# Altium integrated library TI_Logic_Little_Logic.IntLib: 1164 symbols (part 13 of 35)
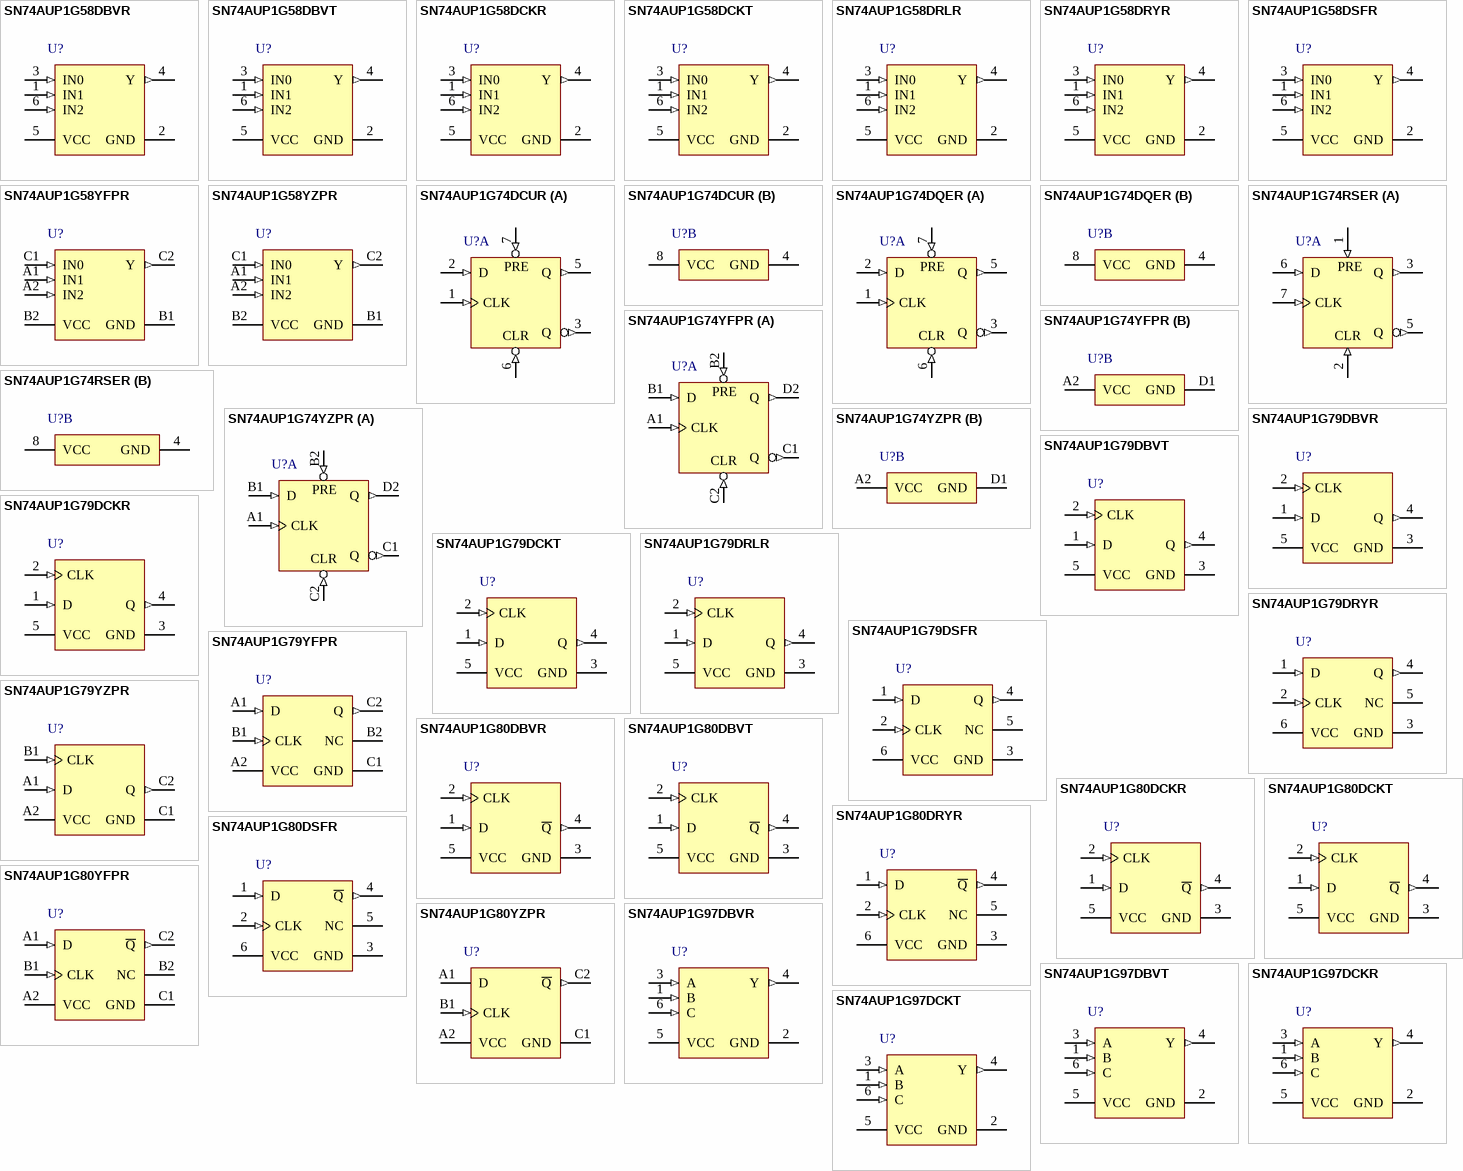
[diagram p72: symbols SN74AUP1G58DBVR to SN74AUP1G97DCKT]

## SN74AUP1G79DBVR
designator U?
Low-Power Single Positive-Edge-Triggered D-Type Flip-Flop, DBV0005A, LARGE T&R; Generic Part Number: SN74AUP1G79; Manufacturer: Texas Instruments; PartNumber: SN74AUP1G79DBVR; VCC(Min)(V): 0.8; VCC(Max)(V): 3.6; Output Type: CMOS; ICC @ Nom Voltage(Max)(mA): 0.0009; Bits(#): 1; F @ Nom Voltage(Max)(Mhz): 100; Rating: Catalog; Technology Family: AUP; Voltage(Nom)(V): 0.8,1.2,1.5,1.8,2.5,3.3; Schmitt Trigger: No; Output Drive (IOL/IOH)(Max)(mA): 20/-20; tpd @ Nom Voltage(Max)(ns): 27.2,17.3,11.8,9.6,7,5.8; Logic: True; DatasheetVersion: SCES592H; PackageReference: DBV0005A; Supplier 1: Mouser; Supplier Part Number 1: 595-SN74AUP1G79DBVR; Supplier 2: Digi-Key; Supplier Part Number 2: 296-17659-2-ND; Supplier 3: Digi-Key; Supplier Part Number 3: 296-17659-1-ND; Supplier 4: Digi-Key; Supplier Part Number 4: 296-17659-6-ND; Input Type: CMOS; Operating Temperature Range(C): -40 to 85; 3-State Output: No; Sub-Family: D-Type Flip-Flop; ComponentLink1Description: Manufacturer URL; ComponentLink1URL: http://www.ti.com/; ComponentLink2Description: Datasheet; ComponentLink2URL: http://www.ti.com/lit/ds/symlink/sn74aup1g79.pdf
footprint DBV0005A_N (SOT23, 5-Leads, Body 3.05x1.75mm, Pitch 0.95mm, IPC Medium Density)
footprint DBV0005A_M (SOT23, 5-Leads, Body 3.05x1.75mm, Pitch 0.95mm, IPC Low Density)
footprint DBV0005A_L (SOT23, 5-Leads, Body 3.05x1.75mm, Pitch 0.95mm, IPC High Density)
pins: 1 D (in) "Data Input", 2 CLK (in) "Clock Input", 3 GND (power) "Ground", 4 Q (out) "Q Output", 5 VCC (power) "Power"

## SN74AUP1G79DBVT
designator U?
Low-Power Single Positive-Edge-Triggered D-Type Flip-Flop, DBV0005A, SMALL T&R; Generic Part Number: SN74AUP1G79; Manufacturer: Texas Instruments; PartNumber: SN74AUP1G79DBVT; VCC(Min)(V): 0.8; VCC(Max)(V): 3.6; Output Type: CMOS; ICC @ Nom Voltage(Max)(mA): 0.0009; Bits(#): 1; F @ Nom Voltage(Max)(Mhz): 100; Rating: Catalog; Technology Family: AUP; Voltage(Nom)(V): 0.8,1.2,1.5,1.8,2.5,3.3; Schmitt Trigger: No; Output Drive (IOL/IOH)(Max)(mA): 20/-20; tpd @ Nom Voltage(Max)(ns): 27.2,17.3,11.8,9.6,7,5.8; Logic: True; DatasheetVersion: SCES592H; PackageReference: DBV0005A; Supplier 1: Mouser; Supplier Part Number 1: 595-SN74AUP1G79DBVT; Supplier 2: Digi-Key; Supplier Part Number 2: 296-32263-2-ND; Supplier 3: Digi-Key; Supplier Part Number 3: 296-32263-1-ND; Supplier 4: Digi-Key; Supplier Part Number 4: 296-32263-6-ND; Input Type: CMOS; Operating Temperature Range(C): -40 to 85; 3-State Output: No; Sub-Family: D-Type Flip-Flop; ComponentLink1Description: Manufacturer URL; ComponentLink1URL: http://www.ti.com/; ComponentLink2Description: Datasheet; ComponentLink2URL: http://www.ti.com/lit/ds/symlink/sn74aup1g79.pdf
footprint DBV0005A_N (SOT23, 5-Leads, Body 3.05x1.75mm, Pitch 0.95mm, IPC Medium Density)
footprint DBV0005A_M (SOT23, 5-Leads, Body 3.05x1.75mm, Pitch 0.95mm, IPC Low Density)
footprint DBV0005A_L (SOT23, 5-Leads, Body 3.05x1.75mm, Pitch 0.95mm, IPC High Density)
pins: 1 D (in) "Data Input", 2 CLK (in) "Clock Input", 3 GND (power) "Ground", 4 Q (out) "Q Output", 5 VCC (power) "Power"

## SN74AUP1G79DCKR
designator U?
Low-Power Single Positive-Edge-Triggered D-Type Flip-Flop, DCK0005A, LARGE T&R; Generic Part Number: SN74AUP1G79; Manufacturer: Texas Instruments; PartNumber: SN74AUP1G79DCKR; VCC(Min)(V): 0.8; VCC(Max)(V): 3.6; Output Type: CMOS; ICC @ Nom Voltage(Max)(mA): 0.0009; Bits(#): 1; F @ Nom Voltage(Max)(Mhz): 100; Rating: Catalog; Technology Family: AUP; Voltage(Nom)(V): 0.8,1.2,1.5,1.8,2.5,3.3; Schmitt Trigger: No; Output Drive (IOL/IOH)(Max)(mA): 20/-20; tpd @ Nom Voltage(Max)(ns): 27.2,17.3,11.8,9.6,7,5.8; Logic: True; DatasheetVersion: SCES592H; PackageReference: DCK0005A; Supplier 1: Mouser; Supplier Part Number 1: 595-SN74AUP1G79DCKR; Supplier 2: Digi-Key; Supplier Part Number 2: 296-17660-2-ND; Supplier 3: Digi-Key; Supplier Part Number 3: 296-17660-1-ND; Supplier 4: Digi-Key; Supplier Part Number 4: 296-17660-6-ND; Input Type: CMOS; Operating Temperature Range(C): -40 to 85; 3-State Output: No; Sub-Family: D-Type Flip-Flop; ComponentLink1Description: Manufacturer URL; ComponentLink1URL: http://www.ti.com/; ComponentLink2Description: Datasheet; ComponentLink2URL: http://www.ti.com/lit/ds/symlink/sn74aup1g79.pdf
footprint DCK0005A_N (SOT23, 5-Leads, Body 2.15x1.4mm, Pitch 0.65mm, IPC Medium Density)
footprint DCK0005A_M (SOT23, 5-Leads, Body 2.15x1.4mm, Pitch 0.65mm, IPC Low Density)
footprint DCK0005A_L (SOT23, 5-Leads, Body 2.15x1.4mm, Pitch 0.65mm, IPC High Density)
pins: 1 D (in) "Data Input", 2 CLK (in) "Clock Input", 3 GND (power) "Ground", 4 Q (out) "Q Output", 5 VCC (power) "Power"

## SN74AUP1G79DCKT
designator U?
Low-Power Single Positive-Edge-Triggered D-Type Flip-Flop, DCK0005A, SMALL T&R; Generic Part Number: SN74AUP1G79; Manufacturer: Texas Instruments; PartNumber: SN74AUP1G79DCKT; VCC(Min)(V): 0.8; VCC(Max)(V): 3.6; Output Type: CMOS; ICC @ Nom Voltage(Max)(mA): 0.0009; Bits(#): 1; F @ Nom Voltage(Max)(Mhz): 100; Rating: Catalog; Technology Family: AUP; Voltage(Nom)(V): 0.8,1.2,1.5,1.8,2.5,3.3; Schmitt Trigger: No; Output Drive (IOL/IOH)(Max)(mA): 20/-20; tpd @ Nom Voltage(Max)(ns): 27.2,17.3,11.8,9.6,7,5.8; Logic: True; DatasheetVersion: SCES592H; PackageReference: DCK0005A; Supplier 1: Mouser; Supplier Part Number 1: 595-SN74AUP1G79DCKT; Supplier 2: Digi-Key; Supplier Part Number 2: 296-32264-2-ND; Supplier 3: Digi-Key; Supplier Part Number 3: 296-32264-1-ND; Supplier 4: Digi-Key; Supplier Part Number 4: 296-32264-6-ND; Input Type: CMOS; Operating Temperature Range(C): -40 to 85; 3-State Output: No; Sub-Family: D-Type Flip-Flop; ComponentLink1Description: Manufacturer URL; ComponentLink1URL: http://www.ti.com/; ComponentLink2Description: Datasheet; ComponentLink2URL: http://www.ti.com/lit/ds/symlink/sn74aup1g79.pdf
footprint DCK0005A_N (SOT23, 5-Leads, Body 2.15x1.4mm, Pitch 0.65mm, IPC Medium Density)
footprint DCK0005A_M (SOT23, 5-Leads, Body 2.15x1.4mm, Pitch 0.65mm, IPC Low Density)
footprint DCK0005A_L (SOT23, 5-Leads, Body 2.15x1.4mm, Pitch 0.65mm, IPC High Density)
pins: 1 D (in) "Data Input", 2 CLK (in) "Clock Input", 3 GND (power) "Ground", 4 Q (out) "Q Output", 5 VCC (power) "Power"

## SN74AUP1G79DRLR
designator U?
Low-Power Single Positive-Edge-Triggered D-Type Flip-Flop, DRL0005A, LARGE T&R; Generic Part Number: SN74AUP1G79; Manufacturer: Texas Instruments; PartNumber: SN74AUP1G79DRLR; VCC(Min)(V): 0.8; VCC(Max)(V): 3.6; Output Type: CMOS; ICC @ Nom Voltage(Max)(mA): 0.0009; Bits(#): 1; F @ Nom Voltage(Max)(Mhz): 100; Rating: Catalog; Technology Family: AUP; Voltage(Nom)(V): 0.8,1.2,1.5,1.8,2.5,3.3; Schmitt Trigger: No; Output Drive (IOL/IOH)(Max)(mA): 20/-20; tpd @ Nom Voltage(Max)(ns): 27.2,17.3,11.8,9.6,7,5.8; Logic: True; DatasheetVersion: SCES592H; PackageReference: DRL0005A; Supplier 1: Mouser; Supplier Part Number 1: 595-SN74AUP1G79DRLR; Supplier 2: Digi-Key; Supplier Part Number 2: 296-19594-2-ND; Supplier 3: Digi-Key; Supplier Part Number 3: 296-19594-1-ND; Supplier 4: Digi-Key; Supplier Part Number 4: 296-19594-6-ND; Input Type: CMOS; Operating Temperature Range(C): -40 to 85; 3-State Output: No; Sub-Family: D-Type Flip-Flop; ComponentLink1Description: Manufacturer URL; ComponentLink1URL: http://www.ti.com/; ComponentLink2Description: Datasheet; ComponentLink2URL: http://www.ti.com/lit/ds/symlink/sn74aup1g79.pdf
footprint DRL0005A_N (SOT23, 5-Leads, Body 1.7x1.3mm, Pitch 0.5mm, IPC Medium Density)
footprint DRL0005A_M (SOT23, 5-Leads, Body 1.7x1.3mm, Pitch 0.5mm, IPC Low Density)
footprint DRL0005A_L (SOT23, 5-Leads, Body 1.7x1.3mm, Pitch 0.5mm, IPC High Density)
pins: 1 D (in) "Data Input", 2 CLK (in) "Clock Input", 3 GND (power) "Ground", 4 Q (out) "Q Output", 5 VCC (power) "Power"

## SN74AUP1G79DRYR
designator U?
Low-Power Single Positive-Edge-Triggered D-Type Flip-Flop, DRY0006A, LARGE T&R; Generic Part Number: SN74AUP1G79; Manufacturer: Texas Instruments; PartNumber: SN74AUP1G79DRYR; VCC(Min)(V): 0.8; VCC(Max)(V): 3.6; Output Type: CMOS; ICC @ Nom Voltage(Max)(mA): 0.0009; Bits(#): 1; F @ Nom Voltage(Max)(Mhz): 100; Rating: Catalog; Technology Family: AUP; Voltage(Nom)(V): 0.8,1.2,1.5,1.8,2.5,3.3; Schmitt Trigger: No; Output Drive (IOL/IOH)(Max)(mA): 20/-20; tpd @ Nom Voltage(Max)(ns): 27.2,17.3,11.8,9.6,7,5.8; Logic: True; DatasheetVersion: SCES592H; PackageReference: DRY0006A; Supplier 1: Mouser; Supplier Part Number 1: 595-SN74AUP1G79DRYR; Supplier 2: Digi-Key; Supplier Part Number 2: 296-27281-2-ND; Supplier 3: Digi-Key; Supplier Part Number 3: 296-27281-1-ND; Supplier 4: Digi-Key; Supplier Part Number 4: 296-27281-6-ND; Input Type: CMOS; Operating Temperature Range(C): -40 to 85; 3-State Output: No; Sub-Family: D-Type Flip-Flop; ComponentLink1Description: Manufacturer URL; ComponentLink1URL: http://www.ti.com/; ComponentLink2Description: Datasheet; ComponentLink2URL: http://www.ti.com/lit/ds/symlink/sn74aup1g79.pdf
footprint DRY0006A_V (SON, 6-Leads, Body 1.45x1mm, Pitch 0.5mm)
pins: 1 D (in) "Data Input", 2 CLK (in) "Clock Input", 3 GND (power) "Ground", 4 Q (out) "Q Output", 5 NC "No Connect", 6 VCC (power) "Power"

## SN74AUP1G79DSFR
designator U?
Low-Power Single Positive-Edge-Triggered D-Type Flip-Flop, DSF0006A, LARGE T&R; Generic Part Number: SN74AUP1G79; Manufacturer: Texas Instruments; PartNumber: SN74AUP1G79DSFR; VCC(Min)(V): 0.8; VCC(Max)(V): 3.6; Output Type: CMOS; ICC @ Nom Voltage(Max)(mA): 0.0009; Bits(#): 1; F @ Nom Voltage(Max)(Mhz): 100; Rating: Catalog; Technology Family: AUP; Voltage(Nom)(V): 0.8,1.2,1.5,1.8,2.5,3.3; Schmitt Trigger: No; Output Drive (IOL/IOH)(Max)(mA): 20/-20; tpd @ Nom Voltage(Max)(ns): 27.2,17.3,11.8,9.6,7,5.8; Logic: True; DatasheetVersion: SCES592H; PackageReference: DSF0006A; Supplier 1: Mouser; Supplier Part Number 1: 595-SN74AUP1G79DSFR; Supplier 2: Digi-Key; Supplier Part Number 2: 296-25617-2-ND; Supplier 3: Digi-Key; Supplier Part Number 3: 296-25617-1-ND; Supplier 4: Digi-Key; Supplier Part Number 4: 296-25617-6-ND; Input Type: CMOS; Operating Temperature Range(C): -40 to 85; 3-State Output: No; Sub-Family: D-Type Flip-Flop; ComponentLink1Description: Manufacturer URL; ComponentLink1URL: http://www.ti.com/; ComponentLink2Description: Datasheet; ComponentLink2URL: http://www.ti.com/lit/ds/symlink/sn74aup1g79.pdf
footprint DSF0006A_V (SON, 6-Leads, Body 1x1mm, Pitch 0.35mm, TI Recommend)
pins: 1 D (in) "Data Input", 2 CLK (in) "Clock Input", 3 GND (power) "Ground", 4 Q (out) "Q Output", 5 NC "No Connect", 6 VCC (power) "Power"

## SN74AUP1G79YFPR
designator U?
Low-Power Single Positive-Edge-Triggered D-Type Flip-Flop, YZP0006AAAA, LARGE T&R; Generic Part Number: SN74AUP1G79; Manufacturer: Texas Instruments; PartNumber: SN74AUP1G79YFPR; VCC(Min)(V): 0.8; VCC(Max)(V): 3.6; Output Type: CMOS; ICC @ Nom Voltage(Max)(mA): 0.0009; Bits(#): 1; F @ Nom Voltage(Max)(Mhz): 100; Rating: Catalog; Technology Family: AUP; Voltage(Nom)(V): 0.8,1.2,1.5,1.8,2.5,3.3; Schmitt Trigger: No; Output Drive (IOL/IOH)(Max)(mA): 20/-20; tpd @ Nom Voltage(Max)(ns): 27.2,17.3,11.8,9.6,7,5.8; Logic: True; DatasheetVersion: SCES592H; PackageReference: YZP0006AAAA; Supplier 1: Mouser; Supplier Part Number 1: 595-SN74AUP1G79YFPR; Supplier 2: Digi-Key; Supplier Part Number 2: SN74AUP1G79YFPR-ND; Input Type: CMOS; Operating Temperature Range(C): -40 to 85; 3-State Output: No; Sub-Family: D-Type Flip-Flop; ComponentLink1Description: Manufacturer URL; ComponentLink1URL: http://www.ti.com/; ComponentLink2Description: Datasheet; ComponentLink2URL: http://www.ti.com/lit/ds/symlink/sn74aup1g79.pdf
footprint YZP0006AAAA (BGA, 6-Balls, Body 1.16x0.76mm, Pitch 0.4mm)
pins: A1 D (in) "Data Input", A2 VCC (power) "Power", B1 CLK (in) "Clock Input", B2 NC "No Connect", C1 GND (power) "Ground", C2 Q (out) "Q Output"

## SN74AUP1G79YZPR
designator U?
Low-Power Single Positive-Edge-Triggered D-Type Flip-Flop, YZP0005ADAD, LARGE T&R; Generic Part Number: SN74AUP1G79; Manufacturer: Texas Instruments; PartNumber: SN74AUP1G79YZPR; VCC(Min)(V): 0.8; VCC(Max)(V): 3.6; Output Type: CMOS; ICC @ Nom Voltage(Max)(mA): 0.0009; Bits(#): 1; F @ Nom Voltage(Max)(Mhz): 100; Rating: Catalog; Technology Family: AUP; Voltage(Nom)(V): 0.8,1.2,1.5,1.8,2.5,3.3; Schmitt Trigger: No; Output Drive (IOL/IOH)(Max)(mA): 20/-20; tpd @ Nom Voltage(Max)(ns): 27.2,17.3,11.8,9.6,7,5.8; Logic: True; DatasheetVersion: SCES592H; PackageReference: YZP0005ADAD; Supplier 1: Mouser; Supplier Part Number 1: 595-SN74AUP1G79YZPR; Supplier 2: Digi-Key; Supplier Part Number 2: 296-21018-2-ND; Supplier 3: Digi-Key; Supplier Part Number 3: 296-21018-1-ND; Supplier 4: Digi-Key; Supplier Part Number 4: 296-21018-6-ND; Input Type: CMOS; Operating Temperature Range(C): -40 to 85; 3-State Output: No; Sub-Family: D-Type Flip-Flop; ComponentLink1Description: Manufacturer URL; ComponentLink1URL: http://www.ti.com/; ComponentLink2Description: Datasheet; ComponentLink2URL: http://www.ti.com/lit/ds/symlink/sn74aup1g79.pdf
footprint YZP0005ADAD (BGA, 5-Balls, Body 1.39x0.89mm, Pitch 0.5mm)
pins: A1 D (in) "Data Input", A2 VCC (power) "Power", B1 CLK (in) "Clock Input", C1 GND (power) "Ground", C2 Q (out) "Q Output"

## SN74AUP1G80DBVR
designator U?
Low-Power Single Postitive-Edge-Triggered D-Type Flip-Flop, DBV0005A, LARGE T&R; Generic Part Number: SN74AUP1G80; Manufacturer: Texas Instruments; PartNumber: SN74AUP1G80DBVR; VCC(Min)(V): 0.8; VCC(Max)(V): 3.6; Output Type: CMOS; ICC @ Nom Voltage(Max)(mA): 0.0009; Bits(#): 1; F @ Nom Voltage(Max)(Mhz): 100; Rating: Catalog; Technology Family: AUP; Voltage(Nom)(V): 0.8,1.2,1.5,1.8,2.5,3.3; Schmitt Trigger: No; Output Drive (IOL/IOH)(Max)(mA): 20/-20; tpd @ Nom Voltage(Max)(ns): 28.4,20.7,14.1,11.2,7.9,6.4; Logic: Inverting; DatasheetVersion: SCES593E; PackageReference: DBV0005A; Supplier 1: Mouser; Supplier Part Number 1: 595-SN74AUP1G80DBVR; Supplier 2: Digi-Key; Supplier Part Number 2: 296-17841-2-ND; Supplier 3: Digi-Key; Supplier Part Number 3: 296-17841-1-ND; Supplier 4: Digi-Key; Supplier Part Number 4: 296-17841-6-ND; Input Type: CMOS; Operating Temperature Range(C): -40 to 85; 3-State Output: No; Sub-Family: D-Type Flip-Flop; ComponentLink1Description: Manufacturer URL; ComponentLink1URL: http://www.ti.com/; ComponentLink2Description: Datasheet; ComponentLink2URL: http://www.ti.com/lit/ds/symlink/sn74aup1g80.pdf
footprint DBV0005A_N (SOT23, 5-Leads, Body 3.05x1.75mm, Pitch 0.95mm, IPC Medium Density)
footprint DBV0005A_M (SOT23, 5-Leads, Body 3.05x1.75mm, Pitch 0.95mm, IPC Low Density)
footprint DBV0005A_L (SOT23, 5-Leads, Body 3.05x1.75mm, Pitch 0.95mm, IPC High Density)
pins: 1 D (in), 2 CLK (in), 3 GND (power), 4 ~{Q} (out), 5 VCC (power)

## SN74AUP1G80DBVT
designator U?
Low-Power Single Postitive-Edge-Triggered D-Type Flip-Flop, DBV0005A, SMALL T&R; Generic Part Number: SN74AUP1G80; Manufacturer: Texas Instruments; PartNumber: SN74AUP1G80DBVT; VCC(Min)(V): 0.8; VCC(Max)(V): 3.6; Output Type: CMOS; ICC @ Nom Voltage(Max)(mA): 0.0009; Bits(#): 1; F @ Nom Voltage(Max)(Mhz): 100; Rating: Catalog; Technology Family: AUP; Voltage(Nom)(V): 0.8,1.2,1.5,1.8,2.5,3.3; Schmitt Trigger: No; Output Drive (IOL/IOH)(Max)(mA): 20/-20; tpd @ Nom Voltage(Max)(ns): 28.4,20.7,14.1,11.2,7.9,6.4; Logic: Inverting; DatasheetVersion: SCES593E; PackageReference: DBV0005A; Supplier 1: Mouser; Supplier Part Number 1: 595-SN74AUP1G80DBVT; Supplier 2: Digi-Key; Supplier Part Number 2: 296-32265-2-ND; Supplier 3: Digi-Key; Supplier Part Number 3: 296-32265-1-ND; Supplier 4: Digi-Key; Supplier Part Number 4: 296-32265-6-ND; Input Type: CMOS; Operating Temperature Range(C): -40 to 85; 3-State Output: No; Sub-Family: D-Type Flip-Flop; ComponentLink1Description: Manufacturer URL; ComponentLink1URL: http://www.ti.com/; ComponentLink2Description: Datasheet; ComponentLink2URL: http://www.ti.com/lit/ds/symlink/sn74aup1g80.pdf
footprint DBV0005A_N (SOT23, 5-Leads, Body 3.05x1.75mm, Pitch 0.95mm, IPC Medium Density)
footprint DBV0005A_M (SOT23, 5-Leads, Body 3.05x1.75mm, Pitch 0.95mm, IPC Low Density)
footprint DBV0005A_L (SOT23, 5-Leads, Body 3.05x1.75mm, Pitch 0.95mm, IPC High Density)
pins: 1 D (in), 2 CLK (in), 3 GND (power), 4 ~{Q} (out), 5 VCC (power)

## SN74AUP1G80DCKR
designator U?
Low-Power Single Postitive-Edge-Triggered D-Type Flip-Flop, DCK0005A, LARGE T&R; Generic Part Number: SN74AUP1G80; Manufacturer: Texas Instruments; PartNumber: SN74AUP1G80DCKR; VCC(Min)(V): 0.8; VCC(Max)(V): 3.6; Output Type: CMOS; ICC @ Nom Voltage(Max)(mA): 0.0009; Bits(#): 1; F @ Nom Voltage(Max)(Mhz): 100; Rating: Catalog; Technology Family: AUP; Voltage(Nom)(V): 0.8,1.2,1.5,1.8,2.5,3.3; Schmitt Trigger: No; Output Drive (IOL/IOH)(Max)(mA): 20/-20; tpd @ Nom Voltage(Max)(ns): 28.4,20.7,14.1,11.2,7.9,6.4; Logic: Inverting; DatasheetVersion: SCES593E; PackageReference: DCK0005A; Supplier 1: Mouser; Supplier Part Number 1: 595-SN74AUP1G80DCKR; Supplier 2: Digi-Key; Supplier Part Number 2: 296-19084-2-ND; Supplier 3: Digi-Key; Supplier Part Number 3: 296-19084-1-ND; Supplier 4: Digi-Key; Supplier Part Number 4: 296-19084-6-ND; Input Type: CMOS; Operating Temperature Range(C): -40 to 85; 3-State Output: No; Sub-Family: D-Type Flip-Flop; ComponentLink1Description: Manufacturer URL; ComponentLink1URL: http://www.ti.com/; ComponentLink2Description: Datasheet; ComponentLink2URL: http://www.ti.com/lit/ds/symlink/sn74aup1g80.pdf
footprint DCK0005A_N (SOT23, 5-Leads, Body 2.15x1.4mm, Pitch 0.65mm, IPC Medium Density)
footprint DCK0005A_M (SOT23, 5-Leads, Body 2.15x1.4mm, Pitch 0.65mm, IPC Low Density)
footprint DCK0005A_L (SOT23, 5-Leads, Body 2.15x1.4mm, Pitch 0.65mm, IPC High Density)
pins: 1 D (in), 2 CLK (in), 3 GND (power), 4 ~{Q} (out), 5 VCC (power)

## SN74AUP1G80DCKT
designator U?
Low-Power Single Postitive-Edge-Triggered D-Type Flip-Flop, DCK0005A, SMALL T&R; Generic Part Number: SN74AUP1G80; Manufacturer: Texas Instruments; PartNumber: SN74AUP1G80DCKT; VCC(Min)(V): 0.8; VCC(Max)(V): 3.6; Output Type: CMOS; ICC @ Nom Voltage(Max)(mA): 0.0009; Bits(#): 1; F @ Nom Voltage(Max)(Mhz): 100; Rating: Catalog; Technology Family: AUP; Voltage(Nom)(V): 0.8,1.2,1.5,1.8,2.5,3.3; Schmitt Trigger: No; Output Drive (IOL/IOH)(Max)(mA): 20/-20; tpd @ Nom Voltage(Max)(ns): 28.4,20.7,14.1,11.2,7.9,6.4; Logic: Inverting; DatasheetVersion: SCES593E; PackageReference: DCK0005A; Supplier 1: Mouser; Supplier Part Number 1: 595-SN74AUP1G80DCKT; Supplier 2: Digi-Key; Supplier Part Number 2: 296-32266-2-ND; Supplier 3: Digi-Key; Supplier Part Number 3: 296-32266-1-ND; Supplier 4: Digi-Key; Supplier Part Number 4: 296-32266-6-ND; Input Type: CMOS; Operating Temperature Range(C): -40 to 85; 3-State Output: No; Sub-Family: D-Type Flip-Flop; ComponentLink1Description: Manufacturer URL; ComponentLink1URL: http://www.ti.com/; ComponentLink2Description: Datasheet; ComponentLink2URL: http://www.ti.com/lit/ds/symlink/sn74aup1g80.pdf
footprint DCK0005A_N (SOT23, 5-Leads, Body 2.15x1.4mm, Pitch 0.65mm, IPC Medium Density)
footprint DCK0005A_M (SOT23, 5-Leads, Body 2.15x1.4mm, Pitch 0.65mm, IPC Low Density)
footprint DCK0005A_L (SOT23, 5-Leads, Body 2.15x1.4mm, Pitch 0.65mm, IPC High Density)
pins: 1 D (in), 2 CLK (in), 3 GND (power), 4 ~{Q} (out), 5 VCC (power)

## SN74AUP1G80DRYR
designator U?
Low-Power Single Postitive-Edge-Triggered D-Type Flip-Flop, DRY0006A, LARGE T&R; Generic Part Number: SN74AUP1G80; Manufacturer: Texas Instruments; PartNumber: SN74AUP1G80DRYR; VCC(Min)(V): 0.8; VCC(Max)(V): 3.6; Output Type: CMOS; ICC @ Nom Voltage(Max)(mA): 0.0009; Bits(#): 1; F @ Nom Voltage(Max)(Mhz): 100; Rating: Catalog; Technology Family: AUP; Voltage(Nom)(V): 0.8,1.2,1.5,1.8,2.5,3.3; Schmitt Trigger: No; Output Drive (IOL/IOH)(Max)(mA): 20/-20; tpd @ Nom Voltage(Max)(ns): 28.4,20.7,14.1,11.2,7.9,6.4; Logic: Inverting; DatasheetVersion: SCES593E; PackageReference: DRY0006A; Supplier 1: Mouser; Supplier Part Number 1: 595-SN74AUP1G80DRYR; Supplier 2: Digi-Key; Supplier Part Number 2: 296-27282-2-ND; Supplier 3: Digi-Key; Supplier Part Number 3: 296-27282-1-ND; Supplier 4: Digi-Key; Supplier Part Number 4: 296-27282-6-ND; Input Type: CMOS; Operating Temperature Range(C): -40 to 85; 3-State Output: No; Sub-Family: D-Type Flip-Flop; ComponentLink1Description: Manufacturer URL; ComponentLink1URL: http://www.ti.com/; ComponentLink2Description: Datasheet; ComponentLink2URL: http://www.ti.com/lit/ds/symlink/sn74aup1g80.pdf
footprint DRY0006A_V (SON, 6-Leads, Body 1.45x1mm, Pitch 0.5mm)
pins: 1 D (in), 2 CLK (in), 3 GND (power), 4 ~{Q} (out), 5 NC, 6 VCC (power)

## SN74AUP1G80DSFR
designator U?
Low-Power Single Postitive-Edge-Triggered D-Type Flip-Flop, DSF0006A, LARGE T&R; Generic Part Number: SN74AUP1G80; Manufacturer: Texas Instruments; PartNumber: SN74AUP1G80DSFR; VCC(Min)(V): 0.8; VCC(Max)(V): 3.6; Output Type: CMOS; ICC @ Nom Voltage(Max)(mA): 0.0009; Bits(#): 1; F @ Nom Voltage(Max)(Mhz): 100; Rating: Catalog; Technology Family: AUP; Voltage(Nom)(V): 0.8,1.2,1.5,1.8,2.5,3.3; Schmitt Trigger: No; Output Drive (IOL/IOH)(Max)(mA): 20/-20; tpd @ Nom Voltage(Max)(ns): 28.4,20.7,14.1,11.2,7.9,6.4; Logic: Inverting; DatasheetVersion: SCES593E; PackageReference: DSF0006A; Supplier 1: Mouser; Supplier Part Number 1: 595-SN74AUP1G80DSFR; Supplier 2: Digi-Key; Supplier Part Number 2: 296-25727-2-ND; Supplier 3: Digi-Key; Supplier Part Number 3: 296-25727-1-ND; Supplier 4: Digi-Key; Supplier Part Number 4: 296-25727-6-ND; Input Type: CMOS; Operating Temperature Range(C): -40 to 85; 3-State Output: No; Sub-Family: D-Type Flip-Flop; ComponentLink1Description: Manufacturer URL; ComponentLink1URL: http://www.ti.com/; ComponentLink2Description: Datasheet; ComponentLink2URL: http://www.ti.com/lit/ds/symlink/sn74aup1g80.pdf
footprint DSF0006A_V (SON, 6-Leads, Body 1x1mm, Pitch 0.35mm, TI Recommend)
pins: 1 D (in), 2 CLK (in), 3 GND (power), 4 ~{Q} (out), 5 NC, 6 VCC (power)

## SN74AUP1G80YFPR
designator U?
Low-Power Single Postitive-Edge-Triggered D-Type Flip-Flop, YZP0006AAAA, LARGE T&R; Generic Part Number: SN74AUP1G80; Manufacturer: Texas Instruments; PartNumber: SN74AUP1G80YFPR; VCC(Min)(V): 0.8; VCC(Max)(V): 3.6; Output Type: CMOS; ICC @ Nom Voltage(Max)(mA): 0.0009; Bits(#): 1; F @ Nom Voltage(Max)(Mhz): 100; Rating: Catalog; Technology Family: AUP; Voltage(Nom)(V): 0.8,1.2,1.5,1.8,2.5,3.3; Schmitt Trigger: No; Output Drive (IOL/IOH)(Max)(mA): 20/-20; tpd @ Nom Voltage(Max)(ns): 28.4,20.7,14.1,11.2,7.9,6.4; Logic: Inverting; DatasheetVersion: SCES593E; PackageReference: YZP0006AAAA; Supplier 1: Mouser; Supplier Part Number 1: 595-SN74AUP1G80YFPR; Supplier 2: Digi-Key; Supplier Part Number 2: SN74AUP1G80YFPR-ND; Input Type: CMOS; Operating Temperature Range(C): -40 to 85; 3-State Output: No; Sub-Family: D-Type Flip-Flop; ComponentLink1Description: Manufacturer URL; ComponentLink1URL: http://www.ti.com/; ComponentLink2Description: Datasheet; ComponentLink2URL: http://www.ti.com/lit/ds/symlink/sn74aup1g80.pdf
footprint YZP0006AAAA (BGA, 6-Balls, Body 1.16x0.76mm, Pitch 0.4mm)
pins: A1 D (in), A2 VCC (power), B1 CLK (in), B2 NC, C1 GND (power), C2 ~{Q} (out)

## SN74AUP1G80YZPR
designator U?
Low-Power Single Postitive-Edge-Triggered D-Type Flip-Flop, YZP0005ADAD, LARGE T&R; Generic Part Number: SN74AUP1G80; Manufacturer: Texas Instruments; PartNumber: SN74AUP1G80YZPR; VCC(Min)(V): 0.8; VCC(Max)(V): 3.6; Output Type: CMOS; ICC @ Nom Voltage(Max)(mA): 0.0009; Bits(#): 1; F @ Nom Voltage(Max)(Mhz): 100; Rating: Catalog; Technology Family: AUP; Voltage(Nom)(V): 0.8,1.2,1.5,1.8,2.5,3.3; Schmitt Trigger: No; Output Drive (IOL/IOH)(Max)(mA): 20/-20; tpd @ Nom Voltage(Max)(ns): 28.4,20.7,14.1,11.2,7.9,6.4; Logic: Inverting; DatasheetVersion: SCES593E; PackageReference: YZP0005ADAD; Supplier 1: Mouser; Supplier Part Number 1: 595-SN74AUP1G80YZPR; Supplier 2: Digi-Key; Supplier Part Number 2: 296-21019-2-ND; Supplier 3: Digi-Key; Supplier Part Number 3: 296-21019-1-ND; Supplier 4: Digi-Key; Supplier Part Number 4: 296-21019-6-ND; Input Type: CMOS; Operating Temperature Range(C): -40 to 85; 3-State Output: No; Sub-Family: D-Type Flip-Flop; ComponentLink1Description: Manufacturer URL; ComponentLink1URL: http://www.ti.com/; ComponentLink2Description: Datasheet; ComponentLink2URL: http://www.ti.com/lit/ds/symlink/sn74aup1g80.pdf
footprint YZP0005ADAD (BGA, 5-Balls, Body 1.39x0.89mm, Pitch 0.5mm)
pins: A1 D, A2 VCC (power), B1 CLK (in), C1 GND (power), C2 ~{Q} (out)

## SN74AUP1G97DBVR
designator U?
Low-Power Configurable Multiple-Function Gate, DBV0006A, LARGE T&R; Generic Part Number: SN74AUP1G97; Manufacturer: Texas Instruments; PartNumber: SN74AUP1G97DBVR; VCC(Min)(V): 0.8; VCC(Max)(V): 3.6; Output Type: CMOS; ICC @ Nom Voltage(Max)(mA): 0.0009; Bits(#): 1; F @ Nom Voltage(Max)(Mhz): 100; Rating: Catalog; Technology Family: AUP; Voltage(Nom)(V): 0.8,1.2,1.5,1.8,2.5,3.3; Schmitt Trigger: No; Output Drive (IOL/IOH)(Max)(mA): 20/-20; tpd @ Nom Voltage(Max)(ns): 36.7,21.4,14.8,11.8,8.8,7.3; Logic: True; Sub-Family: Configurable Logic; DatasheetVersion: SCES505J; PackageReference: DBV0006A; Supplier 1: Mouser; Supplier Part Number 1: 595-SN74AUP1G97DBVR; Supplier 2: Digi-Key; Supplier Part Number 2: 296-19085-2-ND; Supplier 3: Digi-Key; Supplier Part Number 3: 296-19085-1-ND; Supplier 4: Digi-Key; Supplier Part Number 4: 296-19085-6-ND; Input Type: CMOS; Operating Temperature Range(C): -40 to 85; Gate Type: Configurable; 3-State Output: No; ComponentLink1Description: Manufacturer URL; ComponentLink1URL: http://www.ti.com/; ComponentLink2Description: Datasheet; ComponentLink2URL: http://www.ti.com/lit/ds/symlink/sn74aup1g97.pdf
footprint DBV0006A_N (SOT23, 6-Leads, Body 3.05x1.75mm, Pitch 0.95mm, IPC Medium Density)
footprint DBV0006A_M (SOT23, 6-Leads, Body 3.05x1.75mm, Pitch 0.95mm, IPC Low Density)
footprint DBV0006A_L (SOT23, 6-Leads, Body 3.05x1.75mm, Pitch 0.95mm, IPC High Density)
pins: 1 B (in), 2 GND (power), 3 A (in), 4 Y (out), 5 VCC (power), 6 C (in)

## SN74AUP1G97DBVT
designator U?
Low-Power Configurable Multiple-Function Gate, DBV0006A, SMALL T&R; Generic Part Number: SN74AUP1G97; Manufacturer: Texas Instruments; PartNumber: SN74AUP1G97DBVT; VCC(Min)(V): 0.8; VCC(Max)(V): 3.6; Output Type: CMOS; ICC @ Nom Voltage(Max)(mA): 0.0009; Bits(#): 1; F @ Nom Voltage(Max)(Mhz): 100; Rating: Catalog; Technology Family: AUP; Voltage(Nom)(V): 0.8,1.2,1.5,1.8,2.5,3.3; Schmitt Trigger: No; Output Drive (IOL/IOH)(Max)(mA): 20/-20; tpd @ Nom Voltage(Max)(ns): 36.7,21.4,14.8,11.8,8.8,7.3; Logic: True; Sub-Family: Configurable Logic; DatasheetVersion: SCES505J; PackageReference: DBV0006A; Supplier 1: Mouser; Supplier Part Number 1: 595-SN74AUP1G97DBVT; Supplier 2: Digi-Key; Supplier Part Number 2: SN74AUP1G97DBVT-ND; Input Type: CMOS; Operating Temperature Range(C): -40 to 85; Gate Type: Configurable; 3-State Output: No; ComponentLink1Description: Manufacturer URL; ComponentLink1URL: http://www.ti.com/; ComponentLink2Description: Datasheet; ComponentLink2URL: http://www.ti.com/lit/ds/symlink/sn74aup1g97.pdf
footprint DBV0006A_N (SOT23, 6-Leads, Body 3.05x1.75mm, Pitch 0.95mm, IPC Medium Density)
footprint DBV0006A_M (SOT23, 6-Leads, Body 3.05x1.75mm, Pitch 0.95mm, IPC Low Density)
footprint DBV0006A_L (SOT23, 6-Leads, Body 3.05x1.75mm, Pitch 0.95mm, IPC High Density)
pins: 1 B (in), 2 GND (power), 3 A (in), 4 Y (out), 5 VCC (power), 6 C (in)

## SN74AUP1G97DCKR
designator U?
Low-Power Configurable Multiple-Function Gate, DCK0006A, LARGE T&R; Generic Part Number: SN74AUP1G97; Manufacturer: Texas Instruments; PartNumber: SN74AUP1G97DCKR; VCC(Min)(V): 0.8; VCC(Max)(V): 3.6; Output Type: CMOS; ICC @ Nom Voltage(Max)(mA): 0.0009; Bits(#): 1; F @ Nom Voltage(Max)(Mhz): 100; Rating: Catalog; Technology Family: AUP; Voltage(Nom)(V): 0.8,1.2,1.5,1.8,2.5,3.3; Schmitt Trigger: No; Output Drive (IOL/IOH)(Max)(mA): 20/-20; tpd @ Nom Voltage(Max)(ns): 36.7,21.4,14.8,11.8,8.8,7.3; Logic: True; Sub-Family: Configurable Logic; DatasheetVersion: SCES505J; PackageReference: DCK0006A; Supplier 1: Mouser; Supplier Part Number 1: 595-SN74AUP1G97DCKR; Supplier 2: Digi-Key; Supplier Part Number 2: 296-19086-2-ND; Supplier 3: Digi-Key; Supplier Part Number 3: 296-19086-1-ND; Supplier 4: Digi-Key; Supplier Part Number 4: 296-19086-6-ND; Input Type: CMOS; Operating Temperature Range(C): -40 to 85; Gate Type: Configurable; 3-State Output: No; ComponentLink1Description: Manufacturer URL; ComponentLink1URL: http://www.ti.com/; ComponentLink2Description: Datasheet; ComponentLink2URL: http://www.ti.com/lit/ds/symlink/sn74aup1g97.pdf
footprint DCK0006A_N (SOT23, 6-Leads, Body 2.15x1.4mm, Pitch 0.65mm, IPC Medium Density)
footprint DCK0006A_M (SOT23, 6-Leads, Body 2.15x1.4mm, Pitch 0.65mm, IPC Low Density)
footprint DCK0006A_L (SOT23, 6-Leads, Body 2.15x1.4mm, Pitch 0.65mm, IPC High Density)
pins: 1 B (in), 2 GND (power), 3 A (in), 4 Y (out), 5 VCC (power), 6 C (in)

## SN74AUP1G97DCKT
designator U?
Low-Power Configurable Multiple-Function Gate, DCK0006A, SMALL T&R; Generic Part Number: SN74AUP1G97; Manufacturer: Texas Instruments; PartNumber: SN74AUP1G97DCKT; VCC(Min)(V): 0.8; VCC(Max)(V): 3.6; Output Type: CMOS; ICC @ Nom Voltage(Max)(mA): 0.0009; Bits(#): 1; F @ Nom Voltage(Max)(Mhz): 100; Rating: Catalog; Technology Family: AUP; Voltage(Nom)(V): 0.8,1.2,1.5,1.8,2.5,3.3; Schmitt Trigger: No; Output Drive (IOL/IOH)(Max)(mA): 20/-20; tpd @ Nom Voltage(Max)(ns): 36.7,21.4,14.8,11.8,8.8,7.3; Logic: True; Sub-Family: Configurable Logic; DatasheetVersion: SCES505J; PackageReference: DCK0006A; Supplier 1: Mouser; Supplier Part Number 1: 595-SN74AUP1G97DCKT; Supplier 2: Digi-Key; Supplier Part Number 2: 296-32267-2-ND; Supplier 3: Digi-Key; Supplier Part Number 3: 296-32267-1-ND; Supplier 4: Digi-Key; Supplier Part Number 4: 296-32267-6-ND; Input Type: CMOS; Operating Temperature Range(C): -40 to 85; Gate Type: Configurable; 3-State Output: No; ComponentLink1Description: Manufacturer URL; ComponentLink1URL: http://www.ti.com/; ComponentLink2Description: Datasheet; ComponentLink2URL: http://www.ti.com/lit/ds/symlink/sn74aup1g97.pdf
footprint DCK0006A_N (SOT23, 6-Leads, Body 2.15x1.4mm, Pitch 0.65mm, IPC Medium Density)
footprint DCK0006A_M (SOT23, 6-Leads, Body 2.15x1.4mm, Pitch 0.65mm, IPC Low Density)
footprint DCK0006A_L (SOT23, 6-Leads, Body 2.15x1.4mm, Pitch 0.65mm, IPC High Density)
pins: 1 B (in), 2 GND (power), 3 A (in), 4 Y (out), 5 VCC (power), 6 C (in)

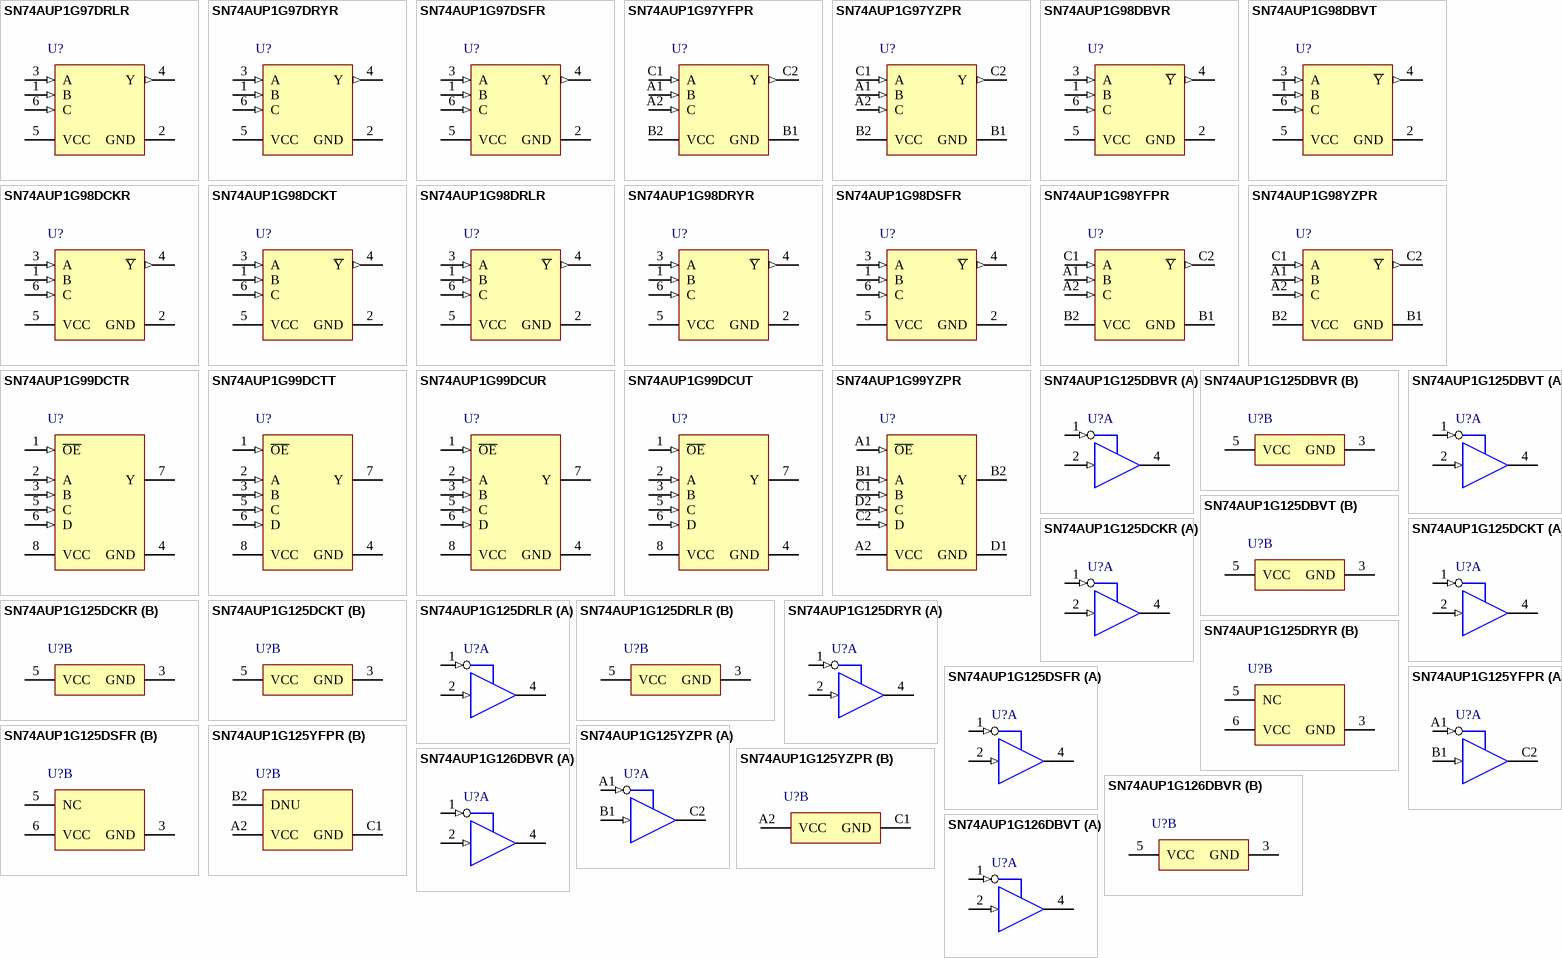
[diagram p21: symbols SN74AUP1G97DRLR to SN74AUP1G126DBVT]

## SN74AUP1G97DRLR
designator U?
Low-Power Configurable Multiple-Function Gate, DRL0006A, LARGE T&R; Generic Part Number: SN74AUP1G97; Manufacturer: Texas Instruments; PartNumber: SN74AUP1G97DRLR; VCC(Min)(V): 0.8; VCC(Max)(V): 3.6; Output Type: CMOS; ICC @ Nom Voltage(Max)(mA): 0.0009; Bits(#): 1; F @ Nom Voltage(Max)(Mhz): 100; Rating: Catalog; Technology Family: AUP; Voltage(Nom)(V): 0.8,1.2,1.5,1.8,2.5,3.3; Schmitt Trigger: No; Output Drive (IOL/IOH)(Max)(mA): 20/-20; tpd @ Nom Voltage(Max)(ns): 36.7,21.4,14.8,11.8,8.8,7.3; Logic: True; Sub-Family: Configurable Logic; DatasheetVersion: SCES505J; PackageReference: DRL0006A; Supplier 1: Mouser; Supplier Part Number 1: 595-SN74AUP1G97DRLR; Supplier 2: Digi-Key; Supplier Part Number 2: 296-18316-2-ND; Supplier 3: Digi-Key; Supplier Part Number 3: 296-18316-1-ND; Supplier 4: Digi-Key; Supplier Part Number 4: 296-18316-6-ND; Input Type: CMOS; Operating Temperature Range(C): -40 to 85; Gate Type: Configurable; 3-State Output: No; ComponentLink1Description: Manufacturer URL; ComponentLink1URL: http://www.ti.com/; ComponentLink2Description: Datasheet; ComponentLink2URL: http://www.ti.com/lit/ds/symlink/sn74aup1g97.pdf
footprint DRL0006A_N (SOT23, 6-Leads, Body 1.7x1.3mm, Pitch 0.5mm, IPC Medium Density)
footprint DRL0006A_M (SOT23, 6-Leads, Body 1.7x1.3mm, Pitch 0.5mm, IPC Low Density)
footprint DRL0006A_L (SOT23, 6-Leads, Body 1.7x1.3mm, Pitch 0.5mm, IPC High Density)
pins: 1 B (in), 2 GND (power), 3 A (in), 4 Y (out), 5 VCC (power), 6 C (in)

## SN74AUP1G97DRYR
designator U?
Low-Power Configurable Multiple-Function Gate, DRY0006A, LARGE T&R; Generic Part Number: SN74AUP1G97; Manufacturer: Texas Instruments; PartNumber: SN74AUP1G97DRYR; VCC(Min)(V): 0.8; VCC(Max)(V): 3.6; Output Type: CMOS; ICC @ Nom Voltage(Max)(mA): 0.0009; Bits(#): 1; F @ Nom Voltage(Max)(Mhz): 100; Rating: Catalog; Technology Family: AUP; Voltage(Nom)(V): 0.8,1.2,1.5,1.8,2.5,3.3; Schmitt Trigger: No; Output Drive (IOL/IOH)(Max)(mA): 20/-20; tpd @ Nom Voltage(Max)(ns): 36.7,21.4,14.8,11.8,8.8,7.3; Logic: True; Sub-Family: Configurable Logic; DatasheetVersion: SCES505J; PackageReference: DRY0006A; Supplier 1: Mouser; Supplier Part Number 1: 595-SN74AUP1G97DRYR; Supplier 2: Digi-Key; Supplier Part Number 2: 296-27344-2-ND; Supplier 3: Digi-Key; Supplier Part Number 3: 296-27344-1-ND; Supplier 4: Digi-Key; Supplier Part Number 4: 296-27344-6-ND; Input Type: CMOS; Operating Temperature Range(C): -40 to 85; Gate Type: Configurable; 3-State Output: No; ComponentLink1Description: Manufacturer URL; ComponentLink1URL: http://www.ti.com/; ComponentLink2Description: Datasheet; ComponentLink2URL: http://www.ti.com/lit/ds/symlink/sn74aup1g97.pdf
footprint DRY0006A_V (SON, 6-Leads, Body 1.45x1mm, Pitch 0.5mm)
pins: 1 B (in), 2 GND (power), 3 A (in), 4 Y (out), 5 VCC (power), 6 C (in)

## SN74AUP1G97DSFR
designator U?
Low-Power Configurable Multiple-Function Gate, DSF0006A, LARGE T&R; Generic Part Number: SN74AUP1G97; Manufacturer: Texas Instruments; PartNumber: SN74AUP1G97DSFR; VCC(Min)(V): 0.8; VCC(Max)(V): 3.6; Output Type: CMOS; ICC @ Nom Voltage(Max)(mA): 0.0009; Bits(#): 1; F @ Nom Voltage(Max)(Mhz): 100; Rating: Catalog; Technology Family: AUP; Voltage(Nom)(V): 0.8,1.2,1.5,1.8,2.5,3.3; Schmitt Trigger: No; Output Drive (IOL/IOH)(Max)(mA): 20/-20; tpd @ Nom Voltage(Max)(ns): 36.7,21.4,14.8,11.8,8.8,7.3; Logic: True; Sub-Family: Configurable Logic; DatasheetVersion: SCES505J; PackageReference: DSF0006A; Supplier 1: Mouser; Supplier Part Number 1: 595-SN74AUP1G97DSFR; Supplier 2: Digi-Key; Supplier Part Number 2: 296-27493-2-ND; Supplier 3: Digi-Key; Supplier Part Number 3: 296-27493-1-ND; Supplier 4: Digi-Key; Supplier Part Number 4: 296-27493-6-ND; Input Type: CMOS; Operating Temperature Range(C): -40 to 85; Gate Type: Configurable; 3-State Output: No; ComponentLink1Description: Manufacturer URL; ComponentLink1URL: http://www.ti.com/; ComponentLink2Description: Datasheet; ComponentLink2URL: http://www.ti.com/lit/ds/symlink/sn74aup1g97.pdf
footprint DSF0006A_V (SON, 6-Leads, Body 1x1mm, Pitch 0.35mm, TI Recommend)
pins: 1 B (in), 2 GND (power), 3 A (in), 4 Y (out), 5 VCC (power), 6 C (in)

## SN74AUP1G97YFPR
designator U?
Low-Power Configurable Multiple-Function Gate, YZP0006AAAA, LARGE T&R; Generic Part Number: SN74AUP1G97; Manufacturer: Texas Instruments; PartNumber: SN74AUP1G97YFPR; VCC(Min)(V): 0.8; VCC(Max)(V): 3.6; Output Type: CMOS; ICC @ Nom Voltage(Max)(mA): 0.0009; Bits(#): 1; F @ Nom Voltage(Max)(Mhz): 100; Rating: Catalog; Technology Family: AUP; Voltage(Nom)(V): 0.8,1.2,1.5,1.8,2.5,3.3; Schmitt Trigger: No; Output Drive (IOL/IOH)(Max)(mA): 20/-20; tpd @ Nom Voltage(Max)(ns): 36.7,21.4,14.8,11.8,8.8,7.3; Logic: True; Sub-Family: Configurable Logic; DatasheetVersion: SCES505J; PackageReference: YZP0006AAAA; Supplier 1: Mouser; Supplier Part Number 1: 595-SN74AUP1G97YFPR; Supplier 2: Digi-Key; Supplier Part Number 2: 296-25398-2-ND; Supplier 3: Digi-Key; Supplier Part Number 3: 296-25398-1-ND; Supplier 4: Digi-Key; Supplier Part Number 4: 296-25398-6-ND; Input Type: CMOS; Operating Temperature Range(C): -40 to 85; Gate Type: Configurable; 3-State Output: No; ComponentLink1Description: Manufacturer URL; ComponentLink1URL: http://www.ti.com/; ComponentLink2Description: Datasheet; ComponentLink2URL: http://www.ti.com/lit/ds/symlink/sn74aup1g97.pdf
footprint YZP0006AAAA (BGA, 6-Balls, Body 1.16x0.76mm, Pitch 0.4mm)
pins: A1 B (in), A2 C (in), B1 GND (power), B2 VCC (power), C1 A (in), C2 Y (out)

## SN74AUP1G97YZPR
designator U?
Low-Power Configurable Multiple-Function Gate, YZP0006ADAD, LARGE T&R; Generic Part Number: SN74AUP1G97; Manufacturer: Texas Instruments; PartNumber: SN74AUP1G97YZPR; VCC(Min)(V): 0.8; VCC(Max)(V): 3.6; Output Type: CMOS; ICC @ Nom Voltage(Max)(mA): 0.0009; Bits(#): 1; F @ Nom Voltage(Max)(Mhz): 100; Rating: Catalog; Technology Family: AUP; Voltage(Nom)(V): 0.8,1.2,1.5,1.8,2.5,3.3; Schmitt Trigger: No; Output Drive (IOL/IOH)(Max)(mA): 20/-20; tpd @ Nom Voltage(Max)(ns): 36.7,21.4,14.8,11.8,8.8,7.3; Logic: True; Sub-Family: Configurable Logic; DatasheetVersion: SCES505J; PackageReference: YZP0006ADAD; Supplier 1: Mouser; Supplier Part Number 1: 595-SN74AUP1G97YZPR; Supplier 2: Digi-Key; Supplier Part Number 2: 296-17369-2-ND; Supplier 3: Digi-Key; Supplier Part Number 3: 296-17369-1-ND; Supplier 4: Digi-Key; Supplier Part Number 4: 296-17369-6-ND; Input Type: CMOS; Operating Temperature Range(C): -40 to 85; Gate Type: Configurable; 3-State Output: No; ComponentLink1Description: Manufacturer URL; ComponentLink1URL: http://www.ti.com/; ComponentLink2Description: Datasheet; ComponentLink2URL: http://www.ti.com/lit/ds/symlink/sn74aup1g97.pdf
footprint YZP0006ADAD (BGA, 6-Balls, Body 1.39x0.89mm, Pitch 0.5mm)
pins: A1 B (in), A2 C (in), B1 GND (power), B2 VCC (power), C1 A (in), C2 Y (out)

## SN74AUP1G98DBVR
designator U?
Low-Power Configurable Multiple-Function Gate, DBV0006A, LARGE T&R; Generic Part Number: SN74AUP1G98; Manufacturer: Texas Instruments; PartNumber: SN74AUP1G98DBVR; VCC(Min)(V): 0.8; VCC(Max)(V): 3.6; Output Type: CMOS; ICC @ Nom Voltage(Max)(mA): 0.0009; Bits(#): 1; F @ Nom Voltage(Max)(Mhz): 100; Rating: Catalog; Technology Family: AUP; Voltage(Nom)(V): 0.8,1.2,1.5,1.8,2.5,3.3; Schmitt Trigger: No; Output Drive (IOL/IOH)(Max)(mA): 20/-20; tpd @ Nom Voltage(Max)(ns): 39.7,21.6,14.6,11.5,8.4,6.9; Logic: True; Sub-Family: Configurable Logic; DatasheetVersion: SCES506H; PackageReference: DBV0006A; Supplier 1: Mouser; Supplier Part Number 1: 595-SN74AUP1G98DBVR; Supplier 2: Digi-Key; Supplier Part Number 2: 296-19087-2-ND; Supplier 3: Digi-Key; Supplier Part Number 3: 296-19087-1-ND; Supplier 4: Digi-Key; Supplier Part Number 4: 296-19087-6-ND; Input Type: CMOS; Operating Temperature Range(C): -40 to 85; Gate Type: Configurable; 3-State Output: No; ComponentLink1Description: Manufacturer URL; ComponentLink1URL: http://www.ti.com/; ComponentLink2Description: Datasheet; ComponentLink2URL: http://www.ti.com/lit/ds/symlink/sn74aup1g98.pdf
footprint DBV0006A_N (SOT23, 6-Leads, Body 3.05x1.75mm, Pitch 0.95mm, IPC Medium Density)
footprint DBV0006A_M (SOT23, 6-Leads, Body 3.05x1.75mm, Pitch 0.95mm, IPC Low Density)
footprint DBV0006A_L (SOT23, 6-Leads, Body 3.05x1.75mm, Pitch 0.95mm, IPC High Density)
pins: 1 B (in), 2 GND (power), 3 A (in), 4 ~{Y} (out), 5 VCC (power), 6 C (in)

## SN74AUP1G98DBVT
designator U?
Low-Power Configurable Multiple-Function Gate, DBV0006A, SMALL T&R; Generic Part Number: SN74AUP1G98; Manufacturer: Texas Instruments; PartNumber: SN74AUP1G98DBVT; VCC(Min)(V): 0.8; VCC(Max)(V): 3.6; Output Type: CMOS; ICC @ Nom Voltage(Max)(mA): 0.0009; Bits(#): 1; F @ Nom Voltage(Max)(Mhz): 100; Rating: Catalog; Technology Family: AUP; Voltage(Nom)(V): 0.8,1.2,1.5,1.8,2.5,3.3; Schmitt Trigger: No; Output Drive (IOL/IOH)(Max)(mA): 20/-20; tpd @ Nom Voltage(Max)(ns): 39.7,21.6,14.6,11.5,8.4,6.9; Logic: True; Sub-Family: Configurable Logic; DatasheetVersion: SCES506H; PackageReference: DBV0006A; Supplier 1: Mouser; Supplier Part Number 1: 595-SN74AUP1G98DBVT; Supplier 2: Digi-Key; Supplier Part Number 2: SN74AUP1G98DBVT-ND; Input Type: CMOS; Operating Temperature Range(C): -40 to 85; Gate Type: Configurable; 3-State Output: No; ComponentLink1Description: Manufacturer URL; ComponentLink1URL: http://www.ti.com/; ComponentLink2Description: Datasheet; ComponentLink2URL: http://www.ti.com/lit/ds/symlink/sn74aup1g98.pdf
footprint DBV0006A_N (SOT23, 6-Leads, Body 3.05x1.75mm, Pitch 0.95mm, IPC Medium Density)
footprint DBV0006A_M (SOT23, 6-Leads, Body 3.05x1.75mm, Pitch 0.95mm, IPC Low Density)
footprint DBV0006A_L (SOT23, 6-Leads, Body 3.05x1.75mm, Pitch 0.95mm, IPC High Density)
pins: 1 B (in), 2 GND (power), 3 A (in), 4 ~{Y} (out), 5 VCC (power), 6 C (in)

## SN74AUP1G98DCKR
designator U?
Low-Power Configurable Multiple-Function Gate, DCK0006A, LARGE T&R; Generic Part Number: SN74AUP1G98; Manufacturer: Texas Instruments; PartNumber: SN74AUP1G98DCKR; VCC(Min)(V): 0.8; VCC(Max)(V): 3.6; Output Type: CMOS; ICC @ Nom Voltage(Max)(mA): 0.0009; Bits(#): 1; F @ Nom Voltage(Max)(Mhz): 100; Rating: Catalog; Technology Family: AUP; Voltage(Nom)(V): 0.8,1.2,1.5,1.8,2.5,3.3; Schmitt Trigger: No; Output Drive (IOL/IOH)(Max)(mA): 20/-20; tpd @ Nom Voltage(Max)(ns): 39.7,21.6,14.6,11.5,8.4,6.9; Logic: True; Sub-Family: Configurable Logic; DatasheetVersion: SCES506H; PackageReference: DCK0006A; Supplier 1: Mouser; Supplier Part Number 1: 595-SN74AUP1G98DCKR; Supplier 2: Digi-Key; Supplier Part Number 2: 296-19088-2-ND; Supplier 3: Digi-Key; Supplier Part Number 3: 296-19088-1-ND; Supplier 4: Digi-Key; Supplier Part Number 4: 296-19088-6-ND; Input Type: CMOS; Operating Temperature Range(C): -40 to 85; Gate Type: Configurable; 3-State Output: No; ComponentLink1Description: Manufacturer URL; ComponentLink1URL: http://www.ti.com/; ComponentLink2Description: Datasheet; ComponentLink2URL: http://www.ti.com/lit/ds/symlink/sn74aup1g98.pdf
footprint DCK0006A_N (SOT23, 6-Leads, Body 2.15x1.4mm, Pitch 0.65mm, IPC Medium Density)
footprint DCK0006A_M (SOT23, 6-Leads, Body 2.15x1.4mm, Pitch 0.65mm, IPC Low Density)
footprint DCK0006A_L (SOT23, 6-Leads, Body 2.15x1.4mm, Pitch 0.65mm, IPC High Density)
pins: 1 B (in), 2 GND (power), 3 A (in), 4 ~{Y} (out), 5 VCC (power), 6 C (in)

## SN74AUP1G98DCKT
designator U?
Low-Power Configurable Multiple-Function Gate, DCK0006A, SMALL T&R; Generic Part Number: SN74AUP1G98; Manufacturer: Texas Instruments; PartNumber: SN74AUP1G98DCKT; VCC(Min)(V): 0.8; VCC(Max)(V): 3.6; Output Type: CMOS; ICC @ Nom Voltage(Max)(mA): 0.0009; Bits(#): 1; F @ Nom Voltage(Max)(Mhz): 100; Rating: Catalog; Technology Family: AUP; Voltage(Nom)(V): 0.8,1.2,1.5,1.8,2.5,3.3; Schmitt Trigger: No; Output Drive (IOL/IOH)(Max)(mA): 20/-20; tpd @ Nom Voltage(Max)(ns): 39.7,21.6,14.6,11.5,8.4,6.9; Logic: True; Sub-Family: Configurable Logic; DatasheetVersion: SCES506H; PackageReference: DCK0006A; Supplier 1: Mouser; Supplier Part Number 1: 595-SN74AUP1G98DCKT; Supplier 2: Digi-Key; Supplier Part Number 2: SN74AUP1G98DCKT-ND; Input Type: CMOS; Operating Temperature Range(C): -40 to 85; Gate Type: Configurable; 3-State Output: No; ComponentLink1Description: Manufacturer URL; ComponentLink1URL: http://www.ti.com/; ComponentLink2Description: Datasheet; ComponentLink2URL: http://www.ti.com/lit/ds/symlink/sn74aup1g98.pdf
footprint DCK0006A_N (SOT23, 6-Leads, Body 2.15x1.4mm, Pitch 0.65mm, IPC Medium Density)
footprint DCK0006A_M (SOT23, 6-Leads, Body 2.15x1.4mm, Pitch 0.65mm, IPC Low Density)
footprint DCK0006A_L (SOT23, 6-Leads, Body 2.15x1.4mm, Pitch 0.65mm, IPC High Density)
pins: 1 B (in), 2 GND (power), 3 A (in), 4 ~{Y} (out), 5 VCC (power), 6 C (in)

## SN74AUP1G98DRLR
designator U?
Low-Power Configurable Multiple-Function Gate, DRL0006A, LARGE T&R; Generic Part Number: SN74AUP1G98; Manufacturer: Texas Instruments; PartNumber: SN74AUP1G98DRLR; VCC(Min)(V): 0.8; VCC(Max)(V): 3.6; Output Type: CMOS; ICC @ Nom Voltage(Max)(mA): 0.0009; Bits(#): 1; F @ Nom Voltage(Max)(Mhz): 100; Rating: Catalog; Technology Family: AUP; Voltage(Nom)(V): 0.8,1.2,1.5,1.8,2.5,3.3; Schmitt Trigger: No; Output Drive (IOL/IOH)(Max)(mA): 20/-20; tpd @ Nom Voltage(Max)(ns): 39.7,21.6,14.6,11.5,8.4,6.9; Logic: True; Sub-Family: Configurable Logic; DatasheetVersion: SCES506H; PackageReference: DRL0006A; Supplier 1: Mouser; Supplier Part Number 1: 595-SN74AUP1G98DRLR; Supplier 2: Digi-Key; Supplier Part Number 2: 296-18651-2-ND; Supplier 3: Digi-Key; Supplier Part Number 3: 296-18651-1-ND; Supplier 4: Digi-Key; Supplier Part Number 4: 296-18651-6-ND; Input Type: CMOS; Operating Temperature Range(C): -40 to 85; Gate Type: Configurable; 3-State Output: No; ComponentLink1Description: Manufacturer URL; ComponentLink1URL: http://www.ti.com/; ComponentLink2Description: Datasheet; ComponentLink2URL: http://www.ti.com/lit/ds/symlink/sn74aup1g98.pdf
footprint DRL0006A_N (SOT23, 6-Leads, Body 1.7x1.3mm, Pitch 0.5mm, IPC Medium Density)
footprint DRL0006A_M (SOT23, 6-Leads, Body 1.7x1.3mm, Pitch 0.5mm, IPC Low Density)
footprint DRL0006A_L (SOT23, 6-Leads, Body 1.7x1.3mm, Pitch 0.5mm, IPC High Density)
pins: 1 B (in), 2 GND (power), 3 A (in), 4 ~{Y} (out), 5 VCC (power), 6 C (in)

## SN74AUP1G98DRYR
designator U?
Low-Power Configurable Multiple-Function Gate, DRY0006A, LARGE T&R; Generic Part Number: SN74AUP1G98; Manufacturer: Texas Instruments; PartNumber: SN74AUP1G98DRYR; VCC(Min)(V): 0.8; VCC(Max)(V): 3.6; Output Type: CMOS; ICC @ Nom Voltage(Max)(mA): 0.0009; Bits(#): 1; F @ Nom Voltage(Max)(Mhz): 100; Rating: Catalog; Technology Family: AUP; Voltage(Nom)(V): 0.8,1.2,1.5,1.8,2.5,3.3; Schmitt Trigger: No; Output Drive (IOL/IOH)(Max)(mA): 20/-20; tpd @ Nom Voltage(Max)(ns): 39.7,21.6,14.6,11.5,8.4,6.9; Logic: True; Sub-Family: Configurable Logic; DatasheetVersion: SCES506H; PackageReference: DRY0006A; Supplier 1: Mouser; Supplier Part Number 1: 595-SN74AUP1G98DRYR; Supplier 2: Digi-Key; Supplier Part Number 2: 296-27345-2-ND; Supplier 3: Digi-Key; Supplier Part Number 3: 296-27345-1-ND; Supplier 4: Digi-Key; Supplier Part Number 4: 296-27345-6-ND; Input Type: CMOS; Operating Temperature Range(C): -40 to 85; Gate Type: Configurable; 3-State Output: No; ComponentLink1Description: Manufacturer URL; ComponentLink1URL: http://www.ti.com/; ComponentLink2Description: Datasheet; ComponentLink2URL: http://www.ti.com/lit/ds/symlink/sn74aup1g98.pdf
footprint DRY0006A_V (SON, 6-Leads, Body 1.45x1mm, Pitch 0.5mm)
pins: 1 B (in), 2 GND (power), 3 A (in), 4 ~{Y} (out), 5 VCC (power), 6 C (in)

## SN74AUP1G98DSFR
designator U?
Low-Power Configurable Multiple-Function Gate, DSF0006A, LARGE T&R; Generic Part Number: SN74AUP1G98; Manufacturer: Texas Instruments; PartNumber: SN74AUP1G98DSFR; VCC(Min)(V): 0.8; VCC(Max)(V): 3.6; Output Type: CMOS; ICC @ Nom Voltage(Max)(mA): 0.0009; Bits(#): 1; F @ Nom Voltage(Max)(Mhz): 100; Rating: Catalog; Technology Family: AUP; Voltage(Nom)(V): 0.8,1.2,1.5,1.8,2.5,3.3; Schmitt Trigger: No; Output Drive (IOL/IOH)(Max)(mA): 20/-20; tpd @ Nom Voltage(Max)(ns): 39.7,21.6,14.6,11.5,8.4,6.9; Logic: True; Sub-Family: Configurable Logic; DatasheetVersion: SCES506H; PackageReference: DSF0006A; Supplier 1: Mouser; Supplier Part Number 1: 595-SN74AUP1G98DSFR; Supplier 2: Digi-Key; Supplier Part Number 2: 296-27283-2-ND; Supplier 3: Digi-Key; Supplier Part Number 3: 296-27283-1-ND; Supplier 4: Digi-Key; Supplier Part Number 4: 296-27283-6-ND; Input Type: CMOS; Operating Temperature Range(C): -40 to 85; Gate Type: Configurable; 3-State Output: No; ComponentLink1Description: Manufacturer URL; ComponentLink1URL: http://www.ti.com/; ComponentLink2Description: Datasheet; ComponentLink2URL: http://www.ti.com/lit/ds/symlink/sn74aup1g98.pdf
footprint DSF0006A_V (SON, 6-Leads, Body 1x1mm, Pitch 0.35mm, TI Recommend)
pins: 1 B (in), 2 GND (power), 3 A (in), 4 ~{Y} (out), 5 VCC (power), 6 C (in)

## SN74AUP1G98YFPR
designator U?
Low-Power Configurable Multiple-Function Gate, YZP0006AAAA, LARGE T&R; Generic Part Number: SN74AUP1G98; Manufacturer: Texas Instruments; PartNumber: SN74AUP1G98YFPR; VCC(Min)(V): 0.8; VCC(Max)(V): 3.6; Output Type: CMOS; ICC @ Nom Voltage(Max)(mA): 0.0009; Bits(#): 1; F @ Nom Voltage(Max)(Mhz): 100; Rating: Catalog; Technology Family: AUP; Voltage(Nom)(V): 0.8,1.2,1.5,1.8,2.5,3.3; Schmitt Trigger: No; Output Drive (IOL/IOH)(Max)(mA): 20/-20; tpd @ Nom Voltage(Max)(ns): 39.7,21.6,14.6,11.5,8.4,6.9; Logic: True; Sub-Family: Configurable Logic; DatasheetVersion: SCES506H; PackageReference: YZP0006AAAA; Supplier 1: Mouser; Supplier Part Number 1: 595-SN74AUP1G98YFPR; Supplier 2: Digi-Key; Supplier Part Number 2: 296-27494-2-ND; Supplier 3: Digi-Key; Supplier Part Number 3: 296-27494-1-ND; Supplier 4: Digi-Key; Supplier Part Number 4: 296-27494-6-ND; Input Type: CMOS; Operating Temperature Range(C): -40 to 85; Gate Type: Configurable; 3-State Output: No; ComponentLink1Description: Manufacturer URL; ComponentLink1URL: http://www.ti.com/; ComponentLink2Description: Datasheet; ComponentLink2URL: http://www.ti.com/lit/ds/symlink/sn74aup1g98.pdf
footprint YZP0006AAAA (BGA, 6-Balls, Body 1.16x0.76mm, Pitch 0.4mm)
pins: A1 B (in), A2 C (in), B1 GND (power), B2 VCC (power), C1 A (in), C2 ~{Y} (out)

## SN74AUP1G98YZPR
designator U?
Low-Power Configurable Multiple-Function Gate, YZP0006ADAD, LARGE T&R; Generic Part Number: SN74AUP1G98; Manufacturer: Texas Instruments; PartNumber: SN74AUP1G98YZPR; VCC(Min)(V): 0.8; VCC(Max)(V): 3.6; Output Type: CMOS; ICC @ Nom Voltage(Max)(mA): 0.0009; Bits(#): 1; F @ Nom Voltage(Max)(Mhz): 100; Rating: Catalog; Technology Family: AUP; Voltage(Nom)(V): 0.8,1.2,1.5,1.8,2.5,3.3; Schmitt Trigger: No; Output Drive (IOL/IOH)(Max)(mA): 20/-20; tpd @ Nom Voltage(Max)(ns): 39.7,21.6,14.6,11.5,8.4,6.9; Logic: True; Sub-Family: Configurable Logic; DatasheetVersion: SCES506H; PackageReference: YZP0006ADAD; Supplier 1: Mouser; Supplier Part Number 1: 595-SN74AUP1G98YZPR; Supplier 2: Digi-Key; Supplier Part Number 2: 296-17370-2-ND; Supplier 3: Digi-Key; Supplier Part Number 3: 296-17370-1-ND; Input Type: CMOS; Operating Temperature Range(C): -40 to 85; Gate Type: Configurable; 3-State Output: No; ComponentLink1Description: Manufacturer URL; ComponentLink1URL: http://www.ti.com/; ComponentLink2Description: Datasheet; ComponentLink2URL: http://www.ti.com/lit/ds/symlink/sn74aup1g98.pdf
footprint YZP0006ADAD (BGA, 6-Balls, Body 1.39x0.89mm, Pitch 0.5mm)
pins: A1 B (in), A2 C (in), B1 GND (power), B2 VCC (power), C1 A (in), C2 ~{Y} (out)